# Altium integrated library Gennum Video Multiplier.IntLib: 6 symbols
Pins are listed as number, name and electrical type; pins without a type are passive.

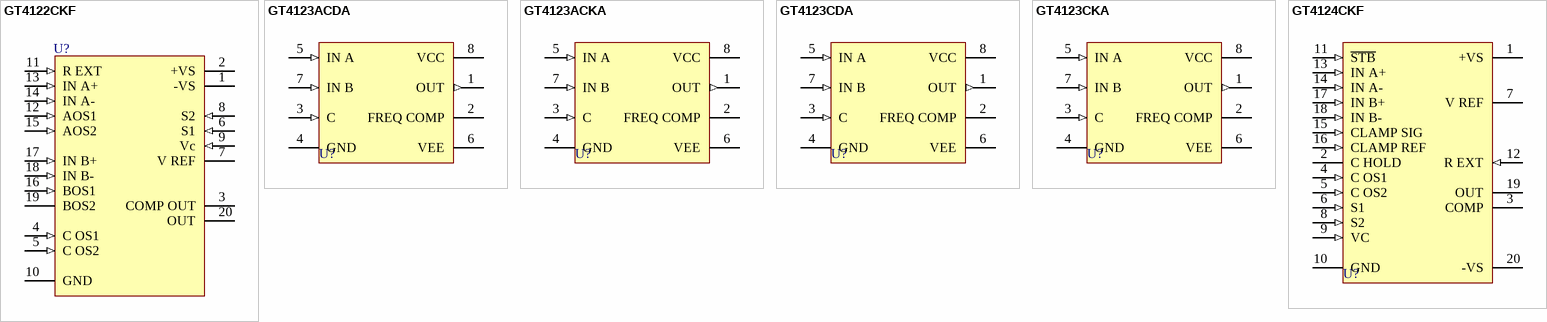
[diagram p0: symbols GT4122CKF to GT4124CKF]

## GT4122CKF
designator U?
Video Multiplier; Published: 8-Jun-2000; LatestRevisionDate: 13-Apr-2006; LatestRevisionNote: IPC-7351 Footprint Added.; DatasheetVersion: Jan-1994; PackageReference: WSOIC20; Publisher: Altium Limited; PackageDescription: 20-Pin Small Outline Integrated Circuit 1.27 mm Pitch; Code_JEDEC: MS-013-AC; Code_IPC: SOIC127P1030-20; ComponentLink1Description: Manufacturer Link; ComponentLink1URL: http://www.gennum.com/index.html; ComponentLink2Description: Datasheet; ComponentLink2URL: http://www.gennum.com/vb/pdffiles/52025DOC.pdf
footprint WSOIC20_N (SOIC, 20-Leads, Body 12.8x7.5mm, Pitch 1.27mm, IPC Medium Density)
footprint WSOIC20_L (SOIC, 20-Leads, Body 12.8x7.5mm, Pitch 1.27mm, IPC High Density)
footprint WSOIC20_M (SOIC, 20-Leads, Body 12.8x7.5mm, Pitch 1.27mm, IPC Low Density)
3D model WSOIC20 (20-Pin Small Outline Integrated Circuit 1.27 mm Pitch)
pins: 1 -VS (power), 2 +VS (power), 3 COMP OUT, 4 C OS1 (in), 5 C OS2 (in), 6 S1 (in), 7 V REF, 8 S2 (in), 9 Vc (in), 10 GND (power), 11 R EXT (in), 12 AOS1 (in), 13 IN A+ (in), 14 IN A- (in), 15 AOS2 (in), 16 BOS1 (in), 17 IN B+ (in), 18 IN B- (in), 19 BOS2, 20 OUT (power)

## GT4123ACDA
designator U?
Two Channel Video Multipliers; Published: 8-Jun-2000; LatestRevisionDate: 17-Jul-2002; LatestRevisionNote: Re-released for DXP Platform.; DatasheetVersion: Jan-1994; PackageVersion: Nov-1999; PackageReference: PDIP8; Publisher: Altium Limited; PackageDescription: DIP; 8 Leads; Row Spacing 7.62 mm; Pitch 2.54 mm; ComponentLink1Description: Manufacturer Link; ComponentLink1URL: http://www.gennum.com/index.html; ComponentLink2Description: Datasheet; ComponentLink2URL: http://www.gennum.com/vb/pdffiles/52038DOC.pdf
footprint PDIP8 (DIP; 8 Leads; Row Spacing 7.62 mm; Pitch 2.54 mm)
pins: 1 OUT (out), 2 FREQ COMP, 3 C (in), 4 GND (power), 5 IN A (in), 6 VEE (power), 7 IN B (in), 8 VCC (power)

## GT4123ACKA
designator U?
Two Channel Video Multipliers; Published: 8-Jun-2000; LatestRevisionDate: 13-Apr-2006; LatestRevisionNote: IPC-7351 Footprint Added.; DatasheetVersion: Jan-1994; PackageReference: SOIC8; Publisher: Altium Limited; PackageDescription: 8-Pin Small Outline Integrated Circuit 1.27 mm Pitch; Code_JEDEC: MS-012-AA; Code_IPC: SOIC127P600-8; ComponentLink1Description: Manufacturer Link; ComponentLink1URL: http://www.gennum.com/index.html; ComponentLink2Description: Datasheet; ComponentLink2URL: http://www.gennum.com/vb/pdffiles/52038DOC.pdf
footprint SOIC8_N (SOIC, 8-Leads, Body 4.8x3.9mm, Pitch 1.27mm, IPC Medium Density)
footprint SOIC8_L (SOIC, 8-Leads, Body 4.8x3.9mm, Pitch 1.27mm, IPC High Density)
footprint SOIC8_M (SOIC, 8-Leads, Body 4.8x3.9mm, Pitch 1.27mm, IPC Low Density)
3D model SOIC8 (8-Pin Small Outline Integrated Circuit 1.27 mm Pitch)
pins: 1 OUT (out), 2 FREQ COMP, 3 C (in), 4 GND (power), 5 IN A (in), 6 VEE (power), 7 IN B (in), 8 VCC (power)

## GT4123CDA
designator U?
Two Channel Video Multipliers; Published: 8-Jun-2000; LatestRevisionDate: 17-Jul-2002; LatestRevisionNote: Re-released for DXP Platform.; DatasheetVersion: Jan-1994; PackageVersion: Nov-1999; PackageReference: PDIP8; Publisher: Altium Limited; PackageDescription: DIP; 8 Leads; Row Spacing 7.62 mm; Pitch 2.54 mm; ComponentLink1Description: Manufacturer Link; ComponentLink1URL: http://www.gennum.com/index.html; ComponentLink2Description: Datasheet; ComponentLink2URL: http://www.gennum.com/vb/pdffiles/52038DOC.pdf
footprint PDIP8 (DIP; 8 Leads; Row Spacing 7.62 mm; Pitch 2.54 mm)
pins: 1 OUT (out), 2 FREQ COMP, 3 C (in), 4 GND (power), 5 IN A (in), 6 VEE (power), 7 IN B (in), 8 VCC (power)

## GT4123CKA
designator U?
Two Channel Video Multipliers; Published: 8-Jun-2000; LatestRevisionDate: 13-Apr-2006; LatestRevisionNote: IPC-7351 Footprint Added.; DatasheetVersion: Jan-1994; PackageReference: SOIC8; Publisher: Altium Limited; PackageDescription: 8-Pin Small Outline Integrated Circuit 1.27 mm Pitch; Code_JEDEC: MS-012-AA; Code_IPC: SOIC127P600-8; ComponentLink1Description: Manufacturer Link; ComponentLink1URL: http://www.gennum.com/index.html; ComponentLink2Description: Datasheet; ComponentLink2URL: http://www.gennum.com/vb/pdffiles/52038DOC.pdf
footprint SOIC8_N (SOIC, 8-Leads, Body 4.8x3.9mm, Pitch 1.27mm, IPC Medium Density)
footprint SOIC8_L (SOIC, 8-Leads, Body 4.8x3.9mm, Pitch 1.27mm, IPC High Density)
footprint SOIC8_M (SOIC, 8-Leads, Body 4.8x3.9mm, Pitch 1.27mm, IPC Low Density)
3D model SOIC8 (8-Pin Small Outline Integrated Circuit 1.27 mm Pitch)
pins: 1 OUT (out), 2 FREQ COMP, 3 C (in), 4 GND (power), 5 IN A (in), 6 VEE (power), 7 IN B (in), 8 VCC (power)

## GT4124CKF
designator U?
Video Multiplier with Strobed DC Restore; Published: 8-Jun-2000; LatestRevisionDate: 13-Apr-2006; LatestRevisionNote: IPC-7351 Footprint Added.; DatasheetVersion: Feb-1994; PackageReference: WSOIC20; Publisher: Altium Limited; PackageDescription: 20-Pin Small Outline Integrated Circuit 1.27 mm Pitch; Code_JEDEC: MS-013-AC; Code_IPC: SOIC127P1030-20; ComponentLink1Description: Manufacturer Link; ComponentLink1URL: http://www.gennum.com/index.html; ComponentLink2Description: Datasheet; ComponentLink2URL: http://www.gennum.com/vb/pdffiles/52059DOC.pdf
footprint WSOIC20_N (SOIC, 20-Leads, Body 12.8x7.5mm, Pitch 1.27mm, IPC Medium Density)
footprint WSOIC20_L (SOIC, 20-Leads, Body 12.8x7.5mm, Pitch 1.27mm, IPC High Density)
footprint WSOIC20_M (SOIC, 20-Leads, Body 12.8x7.5mm, Pitch 1.27mm, IPC Low Density)
3D model WSOIC20 (20-Pin Small Outline Integrated Circuit 1.27 mm Pitch)
pins: 1 +VS (power), 2 C HOLD, 3 COMP, 4 C OS1 (in), 5 C OS2 (in), 6 S1 (in), 7 V REF, 8 S2 (in), 9 VC (in), 10 GND (power), 11 ~{STB} (in), 12 R EXT (in), 13 IN A+ (in), 14 IN A- (in), 15 CLAMP SIG (in), 16 CLAMP REF (in), 17 IN B+ (in), 18 IN B- (in), 19 OUT, 20 -VS (power)